# EAGLE library part NODO (library EL_POTENCIA_LIBRERIA_VES2018)
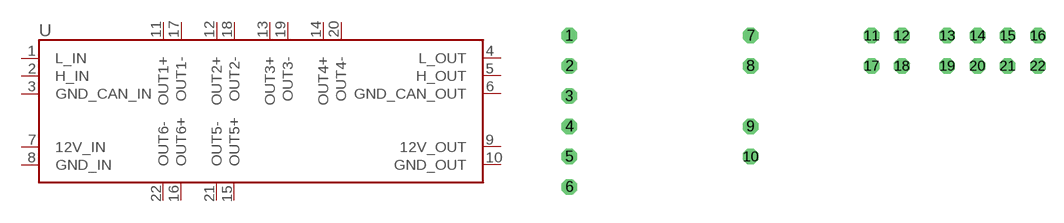
[diagram p1: symbol with the pads of NODO; footprint NODO]

Designator prefix -

## NODO  [NODO]
1  L_IN
2  H_IN
3  GND_CAN_IN
4  L_OUT
5  H_OUT
6  GND_CAN_OUT
7  12V_IN
8  GND_IN
9  12V_OUT
10  GND_OUT
11  OUT1+
12  OUT2+
13  OUT3+
14  OUT4+
15  OUT5+
16  OUT6+
17  OUT1-
18  OUT2-
19  OUT3-
20  OUT4-
21  OUT5-
22  OUT6-

## Footprint NODO (pad centres in mm)
drill 0.8 octagon: 1 -7.62,6.35; 2 -7.62,3.81; 3 -7.62,1.27; 4 -7.62,-1.27; 5 -7.62,-3.81; 6 -7.62,-6.35; 7 7.62,6.35; 8 7.62,3.81; 9 7.62,-1.27; 10 7.62,-3.81; 11 17.78,6.35; 12 20.32,6.35; 13 24.13,6.35; 14 26.67,6.35; 15 29.21,6.35; 16 31.75,6.35; 17 17.78,3.81; 18 20.32,3.81; 19 24.13,3.81; 20 26.67,3.81; 21 29.21,3.81; 22 31.75,3.81